# Altium integrated library c1-12.IntLib: 57 symbols
Pins are listed as number, name and electrical type; pins without a type are passive.

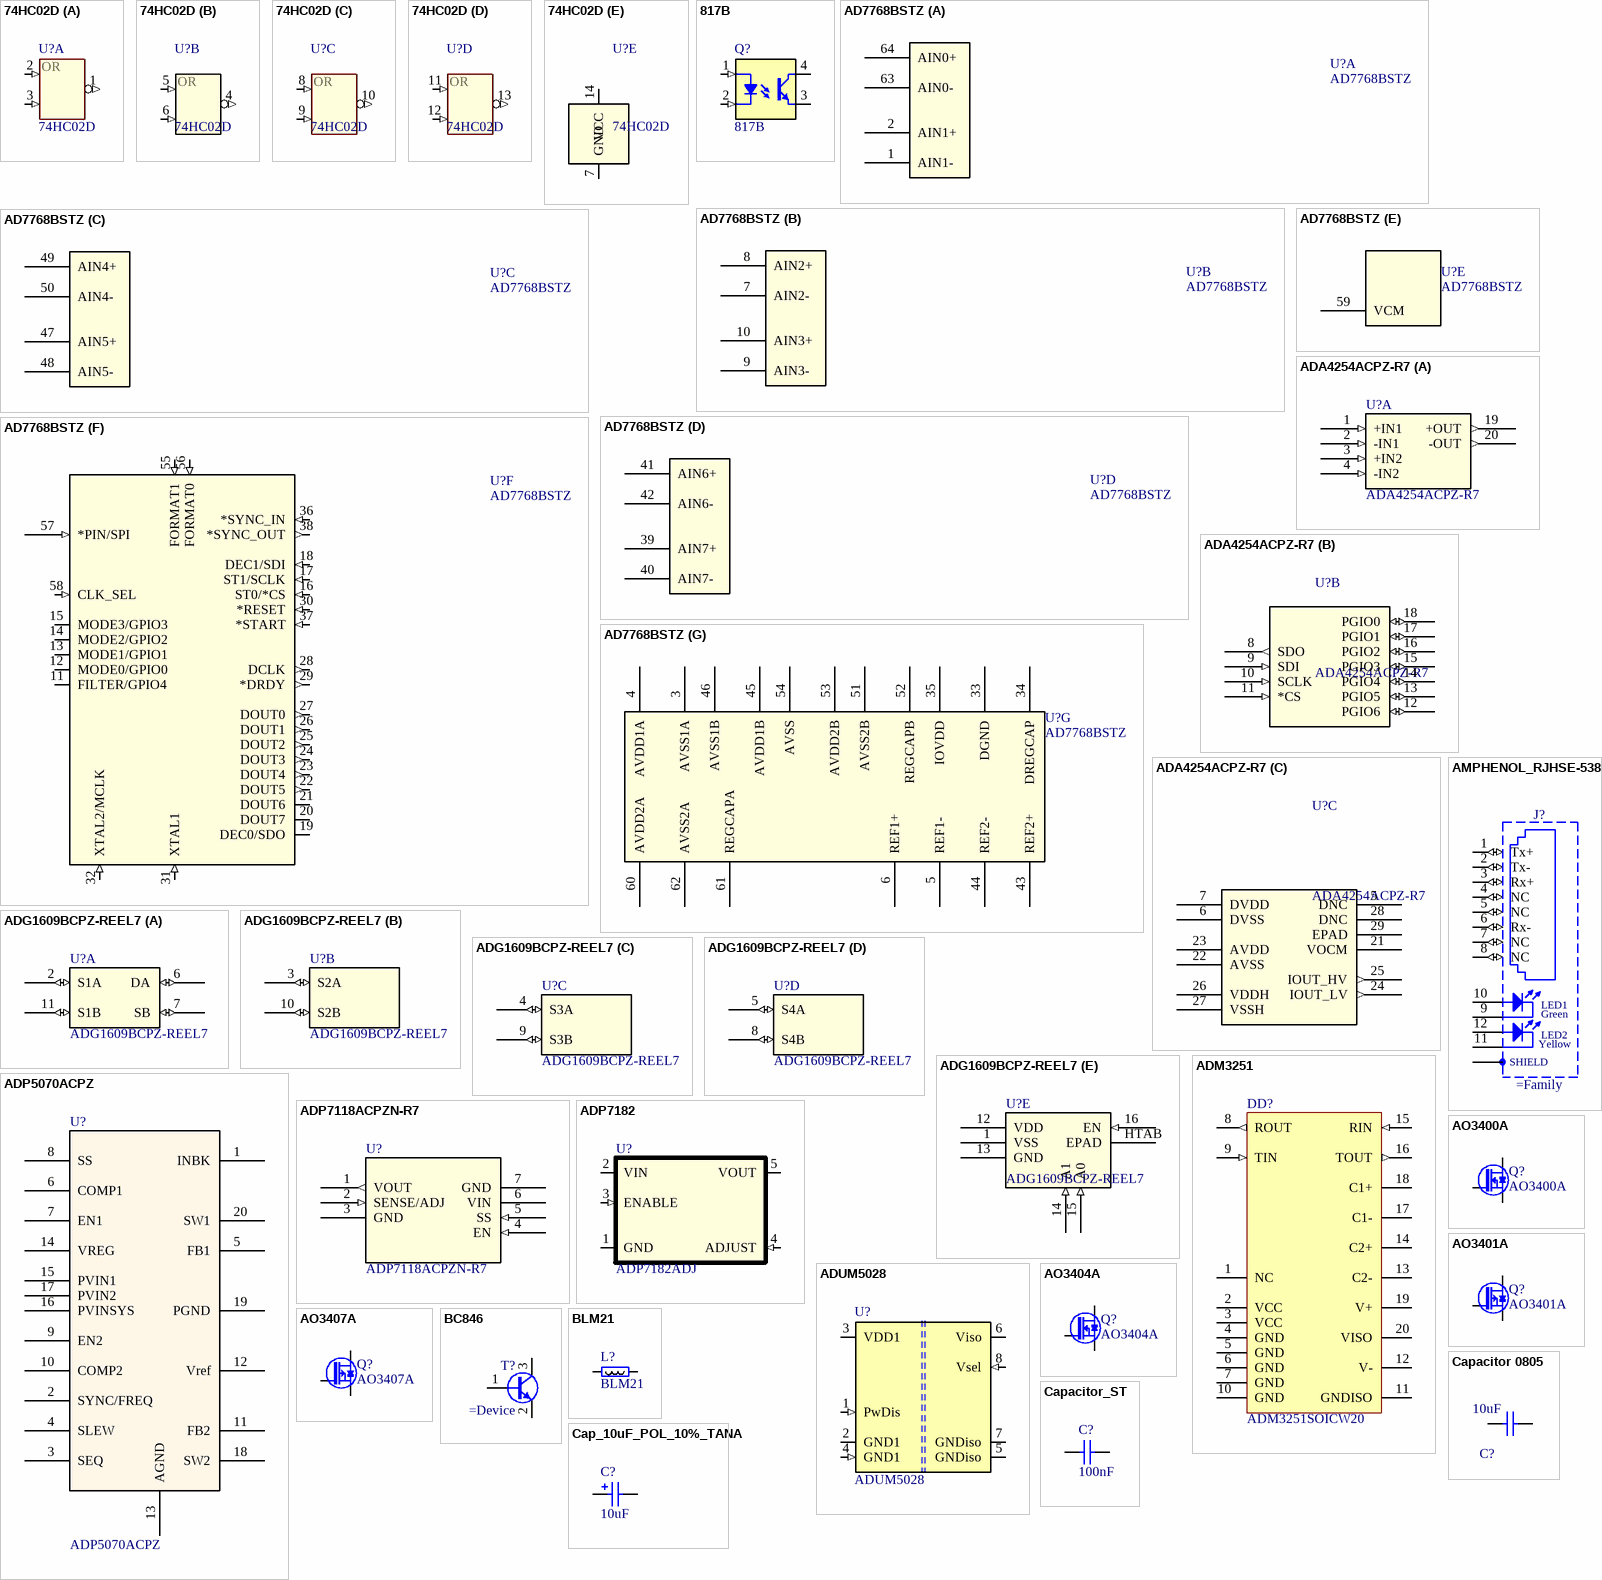
[diagram p0: symbols 74HC02D to Capacitor_ST]

## 74HC02D
designator U?
4 лог. элемента 2ИЛИ-НЕ; Vendor: NXP; Pkg: SOIC14; SMD Solders: 14; Solder Option: RM; Voltage: 2.. 6V; Price: 50; Device: 74HC02D; Name to order: 74HC02D
footprint SOIC127P600X175-14N (SOIC 14, Pitch 1.27mm - Body 4x8.75mm, IPC Medium Density)
part A pins: 1 OUT (out), 2 IN (in), 3 IN (in)
part B pins: 4 OUT (out), 5 IN (in), 6 IN (in)
part C pins: 8 IN (in), 9 IN (in), 10 OUT (out)
part D pins: 11 IN (in), 12 IN (in), 13 OUT (out)
part E pins: 7 GND (power) "Ground", 14 VCC (power) "Data"
part A text: OR
part B text: OR
part C text: OR
part D text: OR

## 817B
designator Q?
Optotransistor; Pkg: DIP4; SMD Solders: 0; Solder Option: RM; THD Solders: 4; Vendor: UMW; Voltage: 35V; Device: 817B; Price: 10; Name to order: 817B; Current: 0
footprint DIP4-300 (DIP 4 Leads, Row Spacing 7.62 mm; Pitch 2.54 mm)
pins: 1 A (in), 2 C (in), 3 E (oe), 4 C (oc)

## AD7768BSTZ
designator U?
Analog to Digital Converters; Mfr_Name: Analog Devices Inc; Type: Data Acquisition; RefDes: RefDes
footprint ST-64-2_ADI-M
part A pins: 1 AIN1-, 2 AIN1+, 63 AIN0-, 64 AIN0+
part B pins: 7 AIN2-, 8 AIN2+, 9 AIN3-, 10 AIN3+
part C pins: 47 AIN5+, 48 AIN5-, 49 AIN4+, 50 AIN4-
part D pins: 39 AIN7+, 40 AIN7-, 41 AIN6+, 42 AIN6-
part E pins: 59 VCM
part F pins: 11 FILTER/GPIO4 (io), 12 MODE0/GPIO0 (io), 13 MODE1/GPIO1 (io), 14 MODE2/GPIO2 (io), 15 MODE3/GPIO3 (io), 16 ST0/*CS (in), 17 ST1/SCLK (in), 18 DEC1/SDI (in), 19 DEC0/SDO (io), 20 DOUT7 (io), 21 DOUT6 (io), 22 DOUT5 (out), 23 DOUT4 (out), 24 DOUT3 (out), 25 DOUT2 (out), 26 DOUT1 (out), 27 DOUT0 (out), 28 DCLK (out), 29 *DRDY (out), 30 *RESET (in), 31 XTAL1 (in), 32 XTAL2/MCLK (in), 36 *SYNC_IN (in), 37 *START (in), 38 *SYNC_OUT (out), 55 FORMAT1 (in), 56 FORMAT0 (in), 57 *PIN/SPI (in), 58 CLK_SEL (in)
part G pins: 3 AVSS1A (power), 4 AVDD1A (power), 5 REF1-, 6 REF1+, 33 DGND (power), 34 DREGCAP (power), 35 IOVDD (power), 43 REF2+, 44 REF2-, 45 AVDD1B (power), 46 AVSS1B (power), 51 AVSS2B (power), 52 REGCAPB (power), 53 AVDD2B (power), 54 AVSS (power), 60 AVDD2A (power), 61 REGCAPA (power), 62 AVSS2A (power)

## ADA4254ACPZ-R7
designator U?
No Description Available; Mfr_Name: Analog Devices Inc; Digi-Key_Part_Number_1: 505-ADA4254ACPZ-R7TR-ND; RefDes: RefDes; Type: Type
footprint CP-28-10_ADI-M
part A pins: 1 +IN1 (in), 2 -IN1 (in), 3 +IN2 (in), 4 -IN2 (in), 19 +OUT (out), 20 -OUT (out)
part B pins: 8 SDO (out), 9 SDI (in), 10 SCLK (in), 11 *CS (in), 12 PGIO6 (io), 13 PGIO5 (io), 14 PGIO4 (io), 15 PGIO3 (io), 16 PGIO2 (io), 17 PGIO1 (io), 18 PGIO0 (io)
part C pins: 5 DNC, 6 DVSS (power), 7 DVDD (power), 21 VOCM (power), 22 AVSS (power), 23 AVDD (power), 24 IOUT_LV (out), 25 IOUT_HV (out), 26 VDDH (power), 27 VSSH (power), 28 DNC, 29 EPAD (power)

## ADG1609BCPZ-REEL7
designator U?
No Description Available; Mfr_Name: Analog Devices Inc; RefDes: RefDes; Type: Type
footprint CP_16_22_ADI-M
part A pins: 2 S1A (io), 6 DA (io), 7 SB (io), 11 S1B (io)
part B pins: 3 S2A (io), 10 S2B (io)
part C pins: 4 S3A (io), 9 S3B (io)
part D pins: 5 S4A (io), 8 S4B (io)
part E pins: 1 VSS (power), 12 VDD (power), 13 GND (power), 14 A1 (in), 15 A0 (in), 16 EN (in), HTAB EPAD

## ADM3251
designator DD?, comment ADM3251SOICW20
Driver UART-RS232; Vendor: Analog Devices; SMD Solder: 20; THD Solder: 0; Unit_Price: 1200; Device: ADM3251; Unit Price: 6; Package: SOICW20; SolderOption: 0
footprint SOIC127P1032X265-20N (SOIC, 1.27mm pitch; 20 pin, 7.50mm W X 12.80mm L X 2.65mm H body, IPC Medium Density)
footprint SOIC127P1032X265-20N (SOIC, 1.27mm pitch; 20 pin, 7.50mm W X 12.80mm L X 2.65mm H body, IPC Medium Density)
pins: 1 NC, 2 VCC (power), 3 VCC (power), 4 GND (power), 5 GND (power), 6 GND (power), 7 GND (power), 8 ROUT (out), 9 TIN (in), 10 GND (power), 11 GNDISO (power), 12 V- (power), 13 C2-, 14 C2+, 15 RIN (in), 16 TOUT (out), 17 C1-, 18 C1+, 19 V+ (power), 20 VISO (power)

## ADP5070ACPZ
designator U?
1 A/0.6 A, DC-to-DC Switching Regulator with / Independent Positive and Negative Outputs
footprint QFN50P400X400X100-21N-S265 (QFN, 0.50mm Pitch, Square; 20 pin, 4.00mm L X 4.00mm W X 1.00mm H body (w/thermal tab 2.65 X 2.65mm),  IPC Medium Density)
footprint QFN50P400X400X100-21N-S265 (QFN, 0.50mm Pitch, Square; 20 pin, 4.00mm L X 4.00mm W X 1.00mm H body (w/thermal tab 2.65 X 2.65mm),  IPC Medium Density)
pins: 1 INBK, 2 SYNC/FREQ, 3 SEQ, 4 SLEW, 5 FB1, 6 COMP1, 7 EN1, 8 SS, 9 EN2, 10 COMP2, 11 FB2, 12 Vref, 13 AGND, 14 VREG, 15 PVIN1, 16 PVINSYS, 17 PVIN2, 18 SW2, 19 PGND, 20 SW1

## ADP7118ACPZN-R7
designator U?
No Description Available; Mfr_Name: Analog Devices Inc; Type: Power Management; RefDes: RefDes
footprint CP-6-3_ADI-M
pins: 1 VOUT (out), 2 SENSE/ADJ (in), 3 GND (power), 4 EN (in), 5 SS (in), 6 VIN (power), 7 GND (power)

## ADP7182
designator U?, comment ADP7182ADJ
Negative LDO Linear stabilizer; Vendor: Analog Devoces; Value: ADJ; Pkg: SOT23-5; SMD Solders: 5; Solder Option: RM; Name to order: ADP7182AUJZ-R7; Vref: 1V22; Price: 100; Device: ADP7182
footprint SOT23-5 (SOT, 0.95mm Pitch; 5 Pin,1.55mm W X 2.90mm L X 1.45mm H body, IPC Medium Density)
pins: 1 GND (power) "Groung", 2 VIN (power) "Vin 2.1,,16V", 3 ENABLE (in) "Enable  activ H", 4 ADJUST (in), 5 VOUT (power) "Vout"

## ADUM5028
designator U?
Isolateted DC DC 5V->5V or 3V3 60mA; Vendor: Analog Devoces; Pkg: SOIC8; SMD Solders: 8; Solder Option: RM; Name to order: ADuM5028-5BRIZ; Current: 200; Price: 2500; Device: ADUM5028
footprint SOIC127P600X175-8N (SOIC 8, Pitch 1.27mm - Body 4x5mm, IPC Medium Density)
pins: 1 PwDis (in), 2 GND1 (power), 3 VDD1 (power), 4 GND1 (in), 5 GNDiso (power), 6 Viso (power), 7 GNDiso (power), 8 Vsel (in)

## AMPHENOL_RJHSE-5381
designator J?
1 Port, 8 Positions, CAT5 RJ45 Modular Connector With Yellow And Green LEDs
footprint AMPHENOL_RJHSE-5381 (1 Port, 8 Positions, CAT5 RJ45 Modular Connector With Yellow And Green LEDs)
footprint AMPHENOL_RJHSE-5381 (1 Port, 8 Positions, CAT5 RJ45 Modular Connector With Yellow And Green LEDs)
pins: 1 Tx+ (io), 2 Tx- (io), 3 Rx+ (io), 4 NC (io), 5 NC (io), 6 Rx- (io), 7 NC (io), 8 NC (io), 9 CLED1, 10 ALED1, 11 ALED2, 12 CLED2, SHIELD
text: LED1; Green; LED2; Yellow

## AO3400A
designator Q?
NMOS; Vendor: UMW; Pkg: SOT23; SMD Solders: 3; Solder Option: RM; Voltage: 30V; Price: 10; Device: AO3400A; Name to order: AO3400A
footprint SOT95P229X119-3N (SOT23 3-Leads, 0.95mm pitch; 3 pin, 1.296mm W X 2.858mm L X 1.194mm H body, IPC Medium Density)
pins: 1 G, 2 S, 3 D

## AO3401A
designator Q?
PMOS; Vendor: UMW; Pkg: SOT23; SMD Solders: 3; Solder Option: RM; THD Solders: 0; Voltage: -30V; Price: 10; Device: AO3401A; Name to order: AO3401A
footprint SOT95P229X119-3N (SOT23 3-Leads, 0.95mm pitch; 3 pin, 1.296mm W X 2.858mm L X 1.194mm H body, IPC Medium Density)
pins: 1 G, 2 S, 3 D

## AO3404A
designator Q?
NMOS; Vendor: UMW; Pkg: SOT23; SMD Solders: 3; Solder Option: RM; Voltage: 30V; Price: 10; Device: AO3404A; Name to order: AO3404A
footprint SOT95P229X119-3N (SOT23 3-Leads, 0.95mm pitch; 3 pin, 1.296mm W X 2.858mm L X 1.194mm H body, IPC Medium Density)
pins: 1 G, 2 S, 3 D

## AO3407A
designator Q?
PMOS; Vendor: UMW; Pkg: SOT23; SMD Solders: 3; Solder Option: RM; THD Solders: 0; Voltage: -30V; Price: 10; Device: AO3407A; Name to order: AO3407A
footprint SOT95P229X119-3N (SOT23 3-Leads, 0.95mm pitch; 3 pin, 1.296mm W X 2.858mm L X 1.194mm H body, IPC Medium Density)
pins: 1 G, 2 S, 3 D

## BC846
designator T?
Bipolar transistor
footprint SOT-23
pins: 1 B, 2 E, 3 C

## BLM21
designator L?
SMD Ferrite bead 0805; Vendor: Vishay; Value: 1k; Pkg: SMD0805; SMD Solders: 2; Solder Option: RM; Device: BLM21; Price: 10
footprint RESC2012X50N (Chip Resistor, EIA 0805, Metric 2012, Body 2.0x1.25mm, IPC Medium Density)
pins: 1, 2

## Cap_10uF_POL_10%_TANA
designator C?, comment 10uF
Polarized Capacitor,10uF,10V,10%,typeA,VISHAY; Manuf_Part_1: 293D106X9010A2TE3; Revision: July-2002: Re-released for DXP Platform.; Value: 10uF; Manuf_1: VISHAY; Order: *; ECCN_US/EU: n/a
simulation model CAP (Capacitor)
signal-integrity model C200M
footprint TAN-A
footprint TAN-A (TAN Capacitor)
footprint TAN-A (TAN Capacitor)
pins: 1, 2

## Capacitor 0805
designator C?, comment 10uF
footprint RESC2012X50N (Chip Resistor, EIA 0805, Metric 2012, Body 2.0x1.25mm, IPC Medium Density)
pins: 1, 2

## Capacitor_ST
designator C?, comment 100nF
Capacitor 0402 / 0603 / 0805; Revision: July-2002: Re-released for DXP Platform.; Value: 100nF
simulation model CAP (Capacitor)
signal-integrity model Cap
footprint 0603C (Chip Capacitor, Body 1.6x0.8mm, Height 1.0mm, IPC Medium Density)
footprint 0402C
footprint 0805C (Footprint not found)
footprint 0603C (Chip Capacitor, Body 1.6x0.8mm, Height 1.0mm, IPC Medium Density)
footprint 0603C (Chip Capacitor, Body 1.6x0.8mm, Height 1.0mm, IPC Medium Density)
footprint 0805С (Chip Capacitor, Body 2.0x1.25mm, IPC Medium Density)
pins: 1, 2

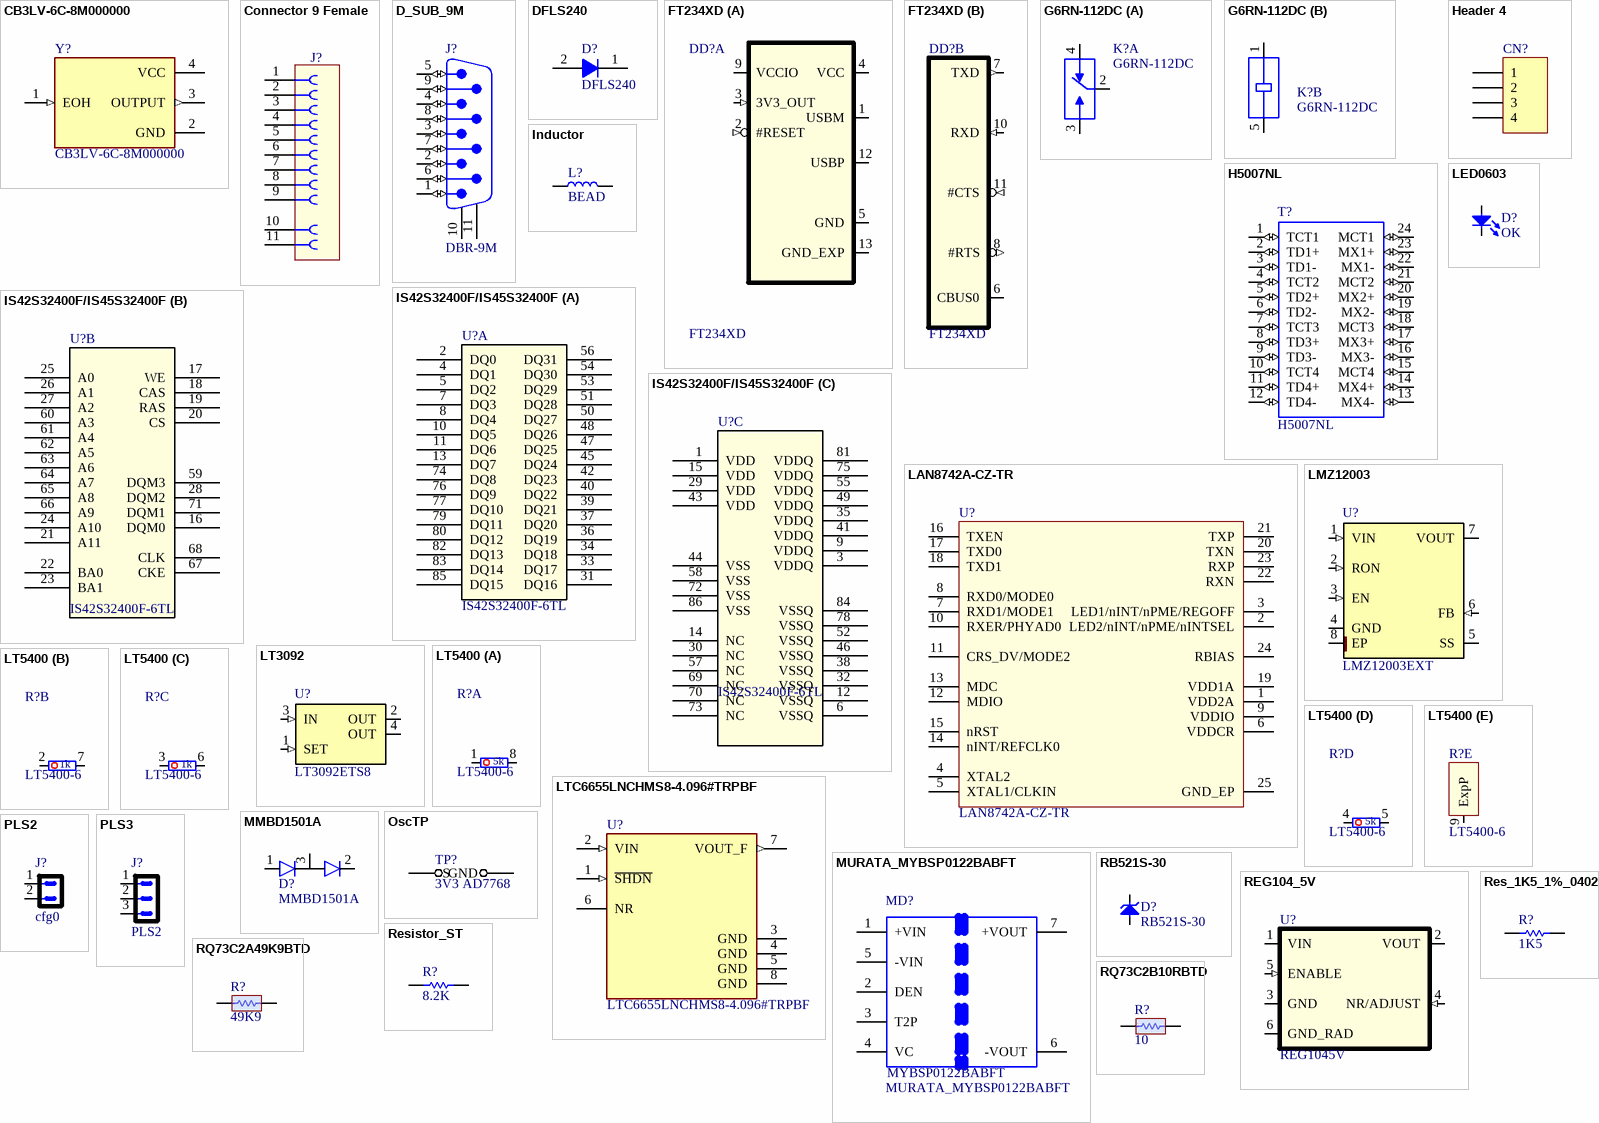
[diagram p1: symbols CB3LV-6C-8M000000 to RQ73C2B10RBTD]

## CB3LV-6C-8M000000
designator Y?
8 MHz XO (Standard) HCMOS, TTL Oscillator 3.3V Enable/Disable 4-SMD, No Lead; MF: CTS-Frequency Controls; SnapEDA_Link: https://www.snapeda.com/parts/CB3LV-6C-8M000000/CTS-Frequency+Controls/view-part/?ref=snap; Package: NON STANDARD-4 CTS; Value: *; MP: CB3LV-6C-8M000000; Check_prices: https://www.snapeda.com/parts/CB3LV-6C-8M000000/CTS-Frequency+Controls/view-part/?ref=eda
footprint OSC_CB3LV-6C-8M000000
pins: 1 EOH (in), 2 GND (power), 3 OUTPUT (out), 4 VCC (power)

## Connector 9 Female
designator J?
Connector 9 Female; Solder Option: 0; THD Solders: 11; SMD Solders: 0; Vendor: *; Value: *
footprint TYCO_5747844-5 (Right Angle 9 Female Contacts D-SUB Connector With PCB Mount Retention , Grounding Straps, and Fixed UNC 4-40 Female Screwlocks)
footprint TYCO_5747844-5 (Right Angle 9 Female Contacts D-SUB Connector With PCB Mount Retention , Grounding Straps, and Fixed UNC 4-40 Female Screwlocks)
pins: 1, 2, 3, 4, 5, 6, 7, 8, 9, 10, 11
1 alternate drawing of the same symbol

## D_SUB_9M
designator J?, comment DBR-9M
Вилка  DSUB 9 угловая; Vendor: Connfly; SMD Solders: 0; Solder Option: RM; THD Solders: 11; Name to order: DRB- 9MA (DBR-9M) (DS1037-9M); Price: 50; Device: DBR-9M
footprint AMPHENOL_L717DFE09P1ATN (Right Angled D-Sub 9 Male Contacts with Metal Bracket and Front Female Screwlock (UNC4-40))
pins: 1 (io), 2 (io), 3 (io), 4 (io), 5 (io), 6 (io), 7 (io), 8 (io), 9 (io), 10, 11

## DFLS240
designator D?
2.0A SURFACE MOUNT SCHOTTKY BARRIER RECTIFIER
footprint DFLS240
pins: 1 K, 2 A

## FT234XD
designator DD?
USB-UART driver; Vendor: FTDI; SMD Solders: 7; THD Solders: 0; Device: FT234XD; Package: DFN_12-0.45; Unit Price: 2
footprint DFN_12-045 (0.45mm pitch 12pin)
part A pins: 1 USBM (io) "USB diff IO negativ", 2 #RESET (in) "RESET", 3 3V3_OUT (in) "Power out to Peripheria", 4 VCC (power) "FT234 Power", 5 GND (power) "FT234 GND", 9 VCCIO (power) "UART ifc Power", 12 USBP (io) "USB diff IO positiv", 13 GND_EXP (power) "Chip GND exp pad"
part B pins: 6 CBUS0 (io) "Multifunc pin", 7 TXD (out) "UART TX", 8 #RTS (out) "UART #RTS", 10 RXD (in) "UART RX", 11 #CTS (in) "UART #CTS"

## G6RN-112DC
designator K?
General Purpose Relay SPST-NO _1 Form A_ 12VDC Coil Through Hole; MF: Omron Electronics; Value: *; Availability: Unavailable; Package: Custom Package Omron Electronics Inc.; Price: None; SnapEDA_Link: https://www.snapeda.com/parts/G6RN-1%2012DC/Omron%20Electronics%20Inc-EMC%20Div/view-part/490385/?ref=snap; MP: G6RN-1 12DC
footprint RELAY_G6RN-1_12DC
part A pins: 2 COM, 3 NO, 4 NC
part B pins: 1 COIL1, 5 COIL2

## H5007NL
designator T?
Isolation and Data Interface _Encapsulated_ Pulse Transformer 1CT:1CT Surface Mount; MP: H5007NL-T; MF: Pulse Electronics; Package: Pulse Electronics; SnapEDA_Link: https://www.snapeda.com/parts/H5007NL-T/Pulse%20Electronics%20Network/view-part/2770413/?ref=snap; Value: *; Availability: Unavailable; Price: None
footprint SOIC127P1600X551-24N
footprint SOIC127P1600X551-24N
pins: 1 TCT1 (io), 2 TD1+ (io), 3 TD1- (io), 4 TCT2 (io), 5 TD2+ (io), 6 TD2- (io), 7 TCT3 (io), 8 TD3+ (io), 9 TD3- (io), 10 TCT4 (io), 11 TD4+ (io), 12 TD4- (io), 13 MX4- (io), 14 MX4+ (io), 15 MCT4 (io), 16 MX3- (io), 17 MX3+ (io), 18 MCT3 (io), 19 MX2- (io), 20 MX2+ (io), 21 MCT2 (io), 22 MX1- (io), 23 MX1+ (io), 24 MCT1 (io)

## Header 4
designator CN?  (value not drawn)
Header, 4-Pin, Single row; Revision: 17-Jul-2002: Re-released for DXP Platform.; Publisher: Altium Limited
signal-integrity model Connector
footprint 1*4 (Footprint not found)
footprint HDR_1x4_2R54_V_M (Footprint not found)
footprint HDR_1x4_2R54_V_M (Male Header, Pitch 2.54mm, 4x1 Position, Mated Height 6mm, Tail Length 3mm)
pins: 1, 2, 3, 4

## Inductor
designator L?, comment BEAD
Inductor; Value: 100uH; Published: 8-Jun-2000; Revision: July-2002: Re-released for DXP Platform.; Publisher: Altium Limited
footprint 0603 (Footprint not found)
footprint 0603L (Bead 0603L)
footprint 0603L (Bead 0603L)
pins: 1, 2

## IS42S32400F/IS45S32400F
designator U?, comment IS42S32400F-6TL
4M x 32 / 128Mb SYNCHRONOUS DRAM
footprint SOP50P1176X120-86N (SOP, 0.50mm, pitch; 86 pin, 10.16mm W X 22.22mm L X 1.20mm H body, IPC Medium Density)
footprint SOP50P1176X120-86N (SOP, 0.50mm, pitch; 86 pin, 10.16mm W X 22.22mm L X 1.20mm H body, IPC Medium Density)
part A pins: 2 DQ0, 4 DQ1, 5 DQ2, 7 DQ3, 8 DQ4, 10 DQ5, 11 DQ6, 13 DQ7, 31 DQ16, 33 DQ17, 34 DQ18, 36 DQ19, 37 DQ20, 39 DQ21, 40 DQ22, 42 DQ23, 45 DQ24, 47 DQ25, 48 DQ26, 50 DQ27, 51 DQ28, 53 DQ29, 54 DQ30, 56 DQ31, 74 DQ8, 76 DQ9, 77 DQ10, 79 DQ11, 80 DQ12, 82 DQ13, 83 DQ14, 85 DQ15
part B pins: 16 DQM0, 17 WE, 18 CAS, 19 RAS, 20 CS, 21 A11, 22 BA0, 23 BA1, 24 A10, 25 A0, 26 A1, 27 A2, 28 DQM2, 59 DQM3, 60 A3, 61 A4, 62 A5, 63 A6, 64 A7, 65 A8, 66 A9, 67 CKE, 68 CLK, 71 DQM1
part C pins: 1 VDD (power), 3 VDDQ (power), 6 VSSQ (power), 9 VDDQ (power), 12 VSSQ (power), 14 NC (power), 15 VDD (power), 29 VDD (power), 30 NC (power), 32 VSSQ (power), 35 VDDQ (power), 38 VSSQ (power), 41 VDDQ (power), 43 VDD (power), 44 VSS (power), 46 VSSQ (power), 49 VDDQ (power), 52 VSSQ (power), 55 VDDQ (power), 57 NC (power), 58 VSS (power), 69 NC (power), 70 NC (power), 72 VSS (power), 73 NC (power), 75 VDDQ (power), 78 VSSQ (power), 81 VDDQ (power), 84 VSSQ (power), 86 VSS (power)

## LAN8742A-CZ-TR
designator U?
LAN8742A-CZ-TR - Small Footprint RMII 10/100 Ethernet, Transceiver with HP Auto-MDIX and flexPWR Technology SQFN-24; Manuf_1: MICROCHIP; Order: LAN8742A-CZ-TR; Manuf_Part_1: LAN8742A-CZ-TR; Distrib: MICROCHIP
footprint QFN24_0R5_4X4 (SQFN 24 Pins, Pitch 0.5mm, 4mmx4mm)
footprint QFN24_0R5_4X4 (SQFN 24 Pins, Pitch 0.5mm, 4mmx4mm)
pins: 1 VDD2A, 2 LED2/nINT/nPME/nINTSEL, 3 LED1/nINT/nPME/REGOFF, 4 XTAL2, 5 XTAL1/CLKIN, 6 VDDCR, 7 RXD1/MODE1, 8 RXD0/MODE0, 9 VDDIO, 10 RXER/PHYAD0, 11 CRS_DV/MODE2, 12 MDIO, 13 MDC, 14 nINT/REFCLK0, 15 nRST, 16 TXEN, 17 TXD0, 18 TXD1, 19 VDD1A, 20 TXN, 21 TXP, 22 RXN, 23 RXP, 24 RBIAS, 25 GND_EP

## LED0603
designator D?, comment OK
Чип светодиод 0603; Vendor: KB; SMD Solders: 2; Solder Option: RM; Pkg: SMD0603; Device: LED0603; Price: 10; Value: OK
footprint LED0603 (Chip LED 0603, Body 2.25x1mm)
pins: 1 C, 2 A

## LMZ12003
designator U?, comment LMZ12003EXT
DC-DC Power Module; Vendor: Texas Instruments; Pkg: NDW 7; SMD Solders: 8; Solder Option: EXT; THD Solders: 0; Price: 11000; Device: LMZ12003; Name to order: LMZ12003EXT; thVoltage: -; PkgCode: EXT
footprint NATIONAL_TO-PMOD-7 (TZA07A) (TO-PMOD 7 Pin Package, NATIONAL Package TZA07A, 1.70mm pitch; 9.85mm L X 10.16mm W X 4.67mm H body)
pins: 1 VIN (in), 2 RON (in), 3 EN (in), 4 GND (power), 5 SS, 6 FB (in), 7 VOUT (power), 8 EP (power)

## LT3092
designator U?, comment LT3092ETS8
Reference, 5 V; Name to order: LT3092ETS8, LT3092ITS8; Pkg: SOT223; SMD Solders: 4; Solder Option: RM; TC: 10ppm/C; Tolerance: 1%; Vendor: Analog Devices Inc; Voltage: max 40V; Current: 10uA; Price: 1700; Device: LT3092ETS8
footprint SOT223 (SOT223, 2.30mm pitch; 3 pin, 3.70mm W X 6.70mm L, IPC Medium Density)
pins: 1 SET (in), 2 OUT (power), 3 IN (in), 4 OUT (power)

## LT5400
designator R?, comment LT5400-6
4 прецизионных резистора; Vendor: Analog Devices; SMD Solders: 0; Solder Option: i; TC: 200ppb/C; Tolerance: 0..025%; Pkg: MSOP 9-0.65; Pwr: 40C/W; Device: LT5400; Name to order: LT5400BMPMS8E-6#PBF; Value: -6; Price: 2; THD Solders: 0
footprint SOP65P488X110-9N-R178X241 (SOP, 8-Leads, Body 3x3mm (max), Pitch 0.65mm, (w/thermal tab 2 .41 X 1.78 mm), IPC Medium Density)
part A pins: 1, 8
part B pins: 2, 7
part C pins: 3, 6
part D pins: 4, 5
part E pins: 9 ExpP
part A text: 5k
part B text: 1k
part C text: 1k
part D text: 5k

## LTC6655LNCHMS8-4.096#TRPBF
designator U?
0.25ppm Noise, Low Drift Precision References; MF: Analog Devices; SnapEDA_Link: https://www.snapeda.com/parts/LTC6655LNCHMS8-4.096%23TRPBF/Analog+Devices/view-part/?ref=snap; Package: MSOP-8 Analog Devices; Value: *; MP: LTC6655LNCHMS8-4.096#TRPBF; Check_prices: https://www.snapeda.com/parts/LTC6655LNCHMS8-4.096%23TRPBF/Analog+Devices/view-part/?ref=eda
footprint SOP65P490X110-8N (SOP, 0.65mm pitch; 8 pin, 3.00mm W X 3.00mm L X 1.10mm H body, IPC Medium Density)
pins: 1 ~{SHDN} (in), 2 VIN (in), 3 GND (power), 4 GND (power), 5 GND (power), 6 NR, 7 VOUT_F (out), 8 GND (power)

## MMBD1501A
designator D?
Diode Standard 200V 200mA Surface Mount SOT-23-3; MF: ON Semiconductor; MP: MMBD1501A; Arrow_Europe-Purchase-URL: https://snapeda.com/shop?store=Arrow+Europe&id=2293125; Price: None; SnapEDA_Link: https://www.snapeda.com/parts/MMBD1501A/ON%20Semiconductor/view-part/2293125/?ref=snap; Arrow_Electronics-Purchase-URL: https://snapeda.com/shop?store=Arrow+Electronics&id=2293125; Package: SOT-23-3 ON Semiconductor; DigiKey-Purchase-URL: https://snapeda.com/shop?store=DigiKey&id=2293125; Availability: Good; Value: *; Mouser-Purchase-URL: https://snapeda.com/shop?store=Mouser&id=2293125
footprint SOT-23
pins: 1 A, 2 C, 3 CA

## MURATA_MYBSP0122BABFT
designator MD?
Isolated PoE Module DC DC Converter 1 Output 12V - - - 2.125A 37V - 57V Input; MF: Murata Power Solutions; Availability: In Stock; Check_prices: https://www.snapeda.com/parts/MYBSP0122BABFT/Murata/view-part/?ref=eda; SnapEDA_Link: https://www.snapeda.com/parts/MYBSP0122BABFT/Murata/view-part/?ref=snap; Value: *; Price: None; Purchase-URL: https://pricing.snapeda.com/search/part/MYBSP0122BABFT/?ref=eda; Package: SMD-7 Murata Power Solutions Inc.; MP: MYBSP0122BABFT
footprint MURATA_MYBSP0122BABFT_0
footprint MURATA_MYBSP0122BABFT_0
footprint MURATA_MYBSP0122BABFT_0 - duplicate
pins: 1 +VIN (power), 2 DEN, 3 T2P, 4 VC (power), 5 -VIN (power), 6 -VOUT (power), 7 +VOUT (power)

## OscTP
designator TP?, comment 3V3 AD7768
Контрольная точка для подключения осциллографа короткой землёй; Vendor: PCB; Value: OSC_TP; Price: 0; SolderOption: PCB
footprint TP2
pins: 1 S, 2 GND

## PLS2
designator J?, comment cfg0
PLS2; Vendor: Confly; SMD Solders: 0; Solder Option: RM; THD Solders: 2; Price: 1; Device: cfg0
footprint PLS2 (2 Contacts Straight Strip Header Pitch 2.54mm L=6.7mm ''Mini-Wire-Wrap'')
footprint SAMTEC_TSW-102-23-L-S (2 Contacts - Pitch 2.54mm - Single Row  Through Mount Straigh Header (Post Lead 5.84mm, Tail Lead 2.92mm, Insulator 2.54mm))
pins: 1 (io), 2 (io)

## PLS3
designator J?, comment PLS2
PLS3; Vendor: Confly; SMD Solders: 0; Solder Option: RM; THD Solders: 2; Price: 1; Device: PLS2
footprint COMATEL_385.0358.1.03.400 (3 Contacts Straight Strip Header Pitch 2.54mm L=6.3mm ''Mini-Wire-Wrap'')
pins: 1 (io), 2 (io), 3 (io)

## RB521S-30
designator D?
Чип Шоттки диод; Vendor: CTK; Voltage: 30V; SMD Solders: 2; Solder Option: RM; Pkg: SOD523; Price: 5; Device: RB521S-30; Name to order: RB521S-30
footprint SODFL1608X65N (Ultra Small Outline Diode Flat Lead (SOD-523), Body; 1.2mm L X 0.8mm W X 0.65mm H, IPC Medium Density)
pins: 1 C, 2 A

## REG104_5V
designator U?, comment REG1045V
Positive LDO Linear stabilizer 5Vin to 3V3Digital; Vendor: Texas Instruments; Device: REG104; Value: 5V; SMD Solder: 6; THD Solder: 0; Step: 2; Unit Price: 6; Package: SOT223-6; SolderOption: 0
footprint SOT223_6-127 (1.27mm pitch 20pin = DCQ6-M(ti))
pins: 1 VIN (power) "Vin 2.1,,16V", 2 VOUT (power) "Vout", 3 GND (power) "Groung", 4 NR/ADJUST (in), 5 ENABLE (in) "Enable  activ H", 6 GND_RAD (power) "Radiator"

## Res_1K5_1%_0402
designator R?, comment 1K5
Resistor,1K5,0402,1%,YAGEO; Manuf_Part_1: RC0402FR-071K5L; Value: 1K5; Manuf_1: YAGEO; Order: RC0402FR-071K5L; ECCN_US/EU: n/a; Distrib: FARNELL
footprint 0402R
footprint 0603R
footprint 0805R (Footprint not found)
footprint 0603R-GS
footprint 1206R (Footprint not found)
pins: 1, 2

## Resistor_ST
designator R?, comment 8.2K
Resistor 0402 / 0603 / 0805 c2; Value: 10K
footprint 0402R
footprint 0603R
footprint 0805R (Footprint not found)
footprint 0603R-GS
footprint 0603R (Chip Resistor, Body 1.6x0.8mm, IPC Medium Density)
footprint 0603R (Chip Resistor, Body 1.6x0.8mm, IPC Medium Density)
pins: 1, 2

## RQ73C2A49K9BTD
designator R?, comment 49K9
Precision Resistor, Thin Film, 0805, .2 W, 49.9K ohm, .1 %, ±10 ppm/°C; MP: RQ73C2A49K9BTD; Package: None; Price: None; Value: 49K9; Availability: Unavailable
footprint 0805R
footprint RESC2012X50N
pins: 1, 2

## RQ73C2B10RBTD
designator R?, comment 10
Precision Resistor, Thin Film, 1206, .4 W, 10 ohm, .1 %, ±10 ppm/°C; MP: RQ73C2B10RBTD; Package: None; Price: None; Value: 10; Availability: Unavailable
footprint R1206
footprint RC1206
pins: 1, 2

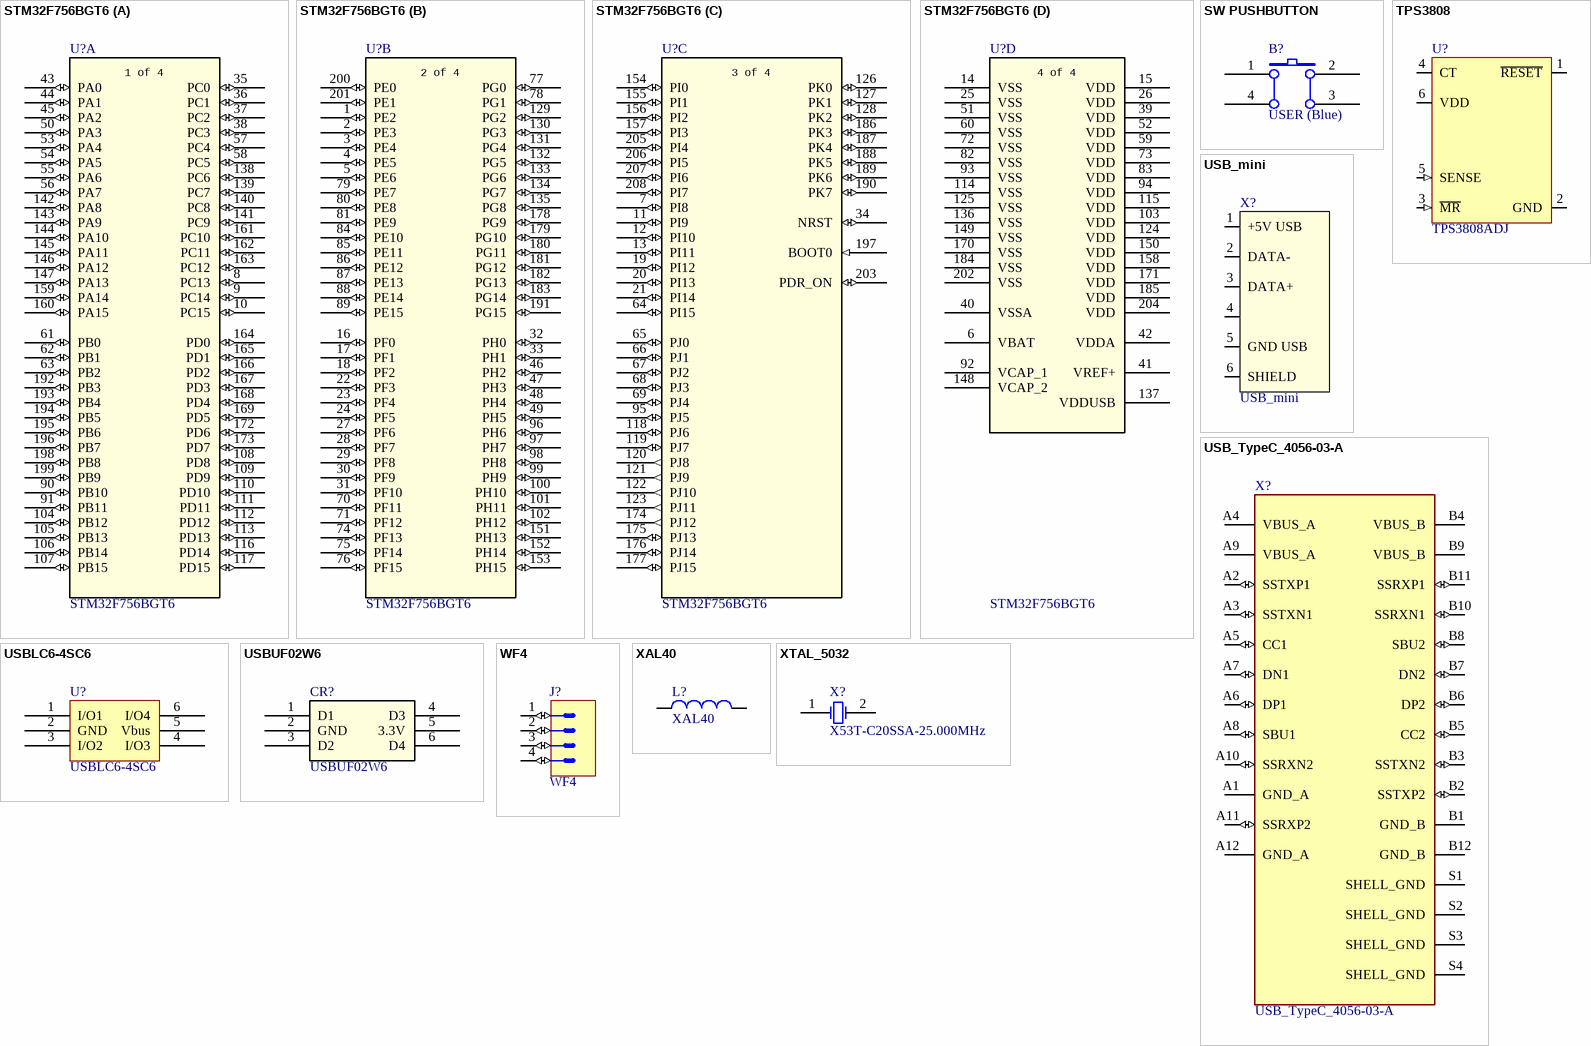
[diagram p2: symbols STM32F756BGT6 to XTAL_5032]

## STM32F756BGT6
designator U?
No Description Available; Mfr_Name: STMicroelectronics; RefDes: RefDes; Type: Type
footprint LQFP-208_STM
footprint QFP50P3000X3000X160-208N
part A pins: 8 PC13 (io), 9 PC14 (io), 10 PC15 (io), 35 PC0 (io), 36 PC1 (io), 37 PC2 (io), 38 PC3 (io), 43 PA0 (io), 44 PA1 (io), 45 PA2 (io), 50 PA3 (io), 53 PA4 (io), 54 PA5 (io), 55 PA6 (io), 56 PA7 (io), 57 PC4 (io), 58 PC5 (io), 61 PB0 (io), 62 PB1 (io), 63 PB2 (io), 90 PB10 (io), 91 PB11 (io), 104 PB12 (io), 105 PB13 (io), 106 PB14 (io), 107 PB15 (io), 108 PD8 (io), 109 PD9 (io), 110 PD10 (io), 111 PD11 (io), 112 PD12 (io), 113 PD13 (io), 116 PD14 (io), 117 PD15 (io), 138 PC6 (io), 139 PC7 (io), 140 PC8 (io), 141 PC9 (io), 142 PA8 (io), 143 PA9 (io), 144 PA10 (io), 145 PA11 (io), 146 PA12 (io), 147 PA13 (io), 159 PA14 (io), 160 PA15 (io), 161 PC10 (io), 162 PC11 (io), 163 PC12 (io), 164 PD0 (io), 165 PD1 (io), 166 PD2 (io), 167 PD3 (io), 168 PD4 (io), 169 PD5 (io), 172 PD6 (io), 173 PD7 (io), 192 PB3 (io), 193 PB4 (io), 194 PB5 (io), 195 PB6 (io), 196 PB7 (io), 198 PB8 (io), 199 PB9 (io)
part B pins: 1 PE2 (io), 2 PE3 (io), 3 PE4 (io), 4 PE5 (io), 5 PE6 (io), 16 PF0 (io), 17 PF1 (io), 18 PF2 (io), 22 PF3 (io), 23 PF4 (io), 24 PF5 (io), 27 PF6 (io), 28 PF7 (io), 29 PF8 (io), 30 PF9 (io), 31 PF10 (io), 32 PH0 (io), 33 PH1 (io), 46 PH2 (io), 47 PH3 (io), 48 PH4 (io), 49 PH5 (io), 70 PF11 (io), 71 PF12 (io), 74 PF13 (io), 75 PF14 (io), 76 PF15 (io), 77 PG0 (io), 78 PG1 (io), 79 PE7 (io), 80 PE8 (io), 81 PE9 (io), 84 PE10 (io), 85 PE11 (io), 86 PE12 (io), 87 PE13 (io), 88 PE14 (io), 89 PE15 (io), 96 PH6 (io), 97 PH7 (io), 98 PH8 (io), 99 PH9 (io), 100 PH10 (io), 101 PH11 (io), 102 PH12 (io), 129 PG2 (io), 130 PG3 (io), 131 PG4 (io), 132 PG5 (io), 133 PG6 (io), 134 PG7 (io), 135 PG8 (io), 151 PH13 (io), 152 PH14 (io), 153 PH15 (io), 178 PG9 (io), 179 PG10 (io), 180 PG11 (io), 181 PG12 (io), 182 PG13 (io), 183 PG14 (io), 191 PG15 (io), 200 PE0 (io), 201 PE1 (io)
part C pins: 7 PI8 (io), 11 PI9 (io), 12 PI10 (io), 13 PI11 (io), 19 PI12 (io), 20 PI13 (io), 21 PI14 (io), 34 NRST (io), 64 PI15 (io), 65 PJ0 (io), 66 PJ1 (io), 67 PJ2 (io), 68 PJ3 (io), 69 PJ4 (io), 95 PJ5 (io), 118 PJ6 (io), 119 PJ7 (io), 120 PJ8 (out), 121 PJ9 (out), 122 PJ10 (out), 123 PJ11 (out), 126 PK0 (io), 127 PK1 (io), 128 PK2 (io), 154 PI0 (io), 155 PI1 (io), 156 PI2 (io), 157 PI3 (io), 174 PJ12 (out), 175 PJ13 (io), 176 PJ14 (io), 177 PJ15 (io), 186 PK3 (io), 187 PK4 (io), 188 PK5 (io), 189 PK6 (io), 190 PK7 (io), 197 BOOT0 (in), 203 PDR_ON (io), 205 PI4 (io), 206 PI5 (io), 207 PI6 (io), 208 PI7 (io)
part D pins: 6 VBAT (power), 14 VSS (power), 15 VDD (power), 25 VSS (power), 26 VDD (power), 39 VDD (power), 40 VSSA (power), 41 VREF+ (power), 42 VDDA (power), 51 VSS (power), 52 VDD (power), 59 VDD (power), 60 VSS (power), 72 VSS (power), 73 VDD (power), 82 VSS (power), 83 VDD (power), 92 VCAP_1 (power), 93 VSS (power), 94 VDD (power), 103 VDD (power), 114 VSS (power), 115 VDD (power), 124 VDD (power), 125 VSS (power), 136 VSS (power), 137 VDDUSB (power), 148 VCAP_2 (power), 149 VSS (power), 150 VDD (power), 158 VDD (power), 170 VSS (power), 171 VDD (power), 184 VSS (power), 185 VDD (power), 202 VSS (power), 204 VDD (power)
part A text: 1 of 4
part B text: 2 of 4
part C text: 3 of 4
part D text: 4 of 4

## SW PUSHBUTTON
designator B?, comment USER (Blue)
SE PUSHBUTTON
footprint PB (Footprint not found)
footprint BP1CMS
footprint PB10 (Footprint not found)
footprint PB-6X6mm-Black (Surface Mounting Type Tact Switch, 4-Leads, Body 6x6mm, Height 4.5mm Black)
pins: 1 A0, 2 B0, 3 B1, 4 A1

## TPS3808
designator U?, comment TPS3808ADJ
Supervisory Circuit. Low-Quiescent-Current, Programmable-Delay; Vendor: Texas Instruments; Value: ADJ; Pkg: SOT23-6; SMD Solders: 6; Solder Option: RM; THD Solders: 0; Name to order: TPS3808G01DBV; Current: 6uA; thVoltage: 400mV; Price: 200; Device: TPS3808
footprint SOT95P270X145-6N (SOT, 0.95mm Pitch; 6 Pin,1.55mm W X 2.90mm L X 1.45mm H body, IPC Medium Density)
pins: 1 ~{RESET} (oc), 2 GND (power), 3 ~{MR} (in), 4 CT, 5 SENSE (in), 6 VDD (power)

## USB_mini
designator X?
Вилка  PLS 6x2.54; Vendor: TE Connectivity; SolderOption: Norm; Price: 50; Value: USB_mini
footprint TYCO_1734035-1 (SMD, Right Angle, 5 Position, Type B, Mini USB Receptacle)
footprint TYCO_1734035-1 (SMD, Right Angle, 5 Position, Type B, Mini USB Receptacle)
pins: 1 +5V USB "Ground", 2 DATA- "Ground", 3 DATA+ "Ground", 4 "Ground", 5 GND USB "Ground", 6 SHIELD "Ground"

## USB_TypeC_4056-03-A
designator X?
USB-C (USB TYPE-C) USB 3.2 Gen 2 (USB 3.1 Gen 2, Superspeed + (USB 3.1)) Receptacle Connector 24 Position Surface Mount, Right Angle; Through Hole; PartN: USB4056-03-A; Vendor: Global Connector Technology; Purchase-URL: https://pricing.snapeda.com/search/part/USB4056-03-A/?ref=eda; Package: None; Availability: In Stock; Value: USB_TypeC; Check_prices: https://www.snapeda.com/parts/USB4056-03-A/Global+Connector+Technology/view-part/?ref=eda; Price: 75; SnapEDA_Link: https://www.snapeda.com/parts/USB4056-03-A/Global+Connector+Technology/view-part/?ref=snap
footprint GCT_USB4056-03-A_REVA
pins: A1 GND_A (power), A2 SSTXP1 (io), A3 SSTXN1 (io), A4 VBUS_A (power), A5 CC1 (io), A6 DP1 (io), A7 DN1 (io), A8 SBU1 (io), A9 VBUS_A (power), A10 SSRXN2 (io), A11 SSRXP2 (io), A12 GND_A (power), B1 GND_B (power), B2 SSTXP2 (io), B3 SSTXN2 (io), B4 VBUS_B (power), B5 CC2 (io), B6 DP2 (io), B7 DN2 (io), B8 SBU2 (io), B9 VBUS_B (power), B10 SSRXN1 (io), B11 SSRXP1 (io), B12 GND_B (power), S1 SHELL_GND (power), S2 SHELL_GND (power), S3 SHELL_GND (power), S4 SHELL_GND (power)

## USBLC6-4SC6
designator U?
footprint SOT23-6L
footprint SOT23-6L
pins: 1 I/O1, 2 GND, 3 I/O2, 4 I/O3, 5 Vbus, 6 I/O4

## USBUF02W6
designator CR?
USB protection; Mfr_Name: STMicroelectronics; RefDes: RefDes; Type: Type
footprint SOTT323-6L_STM-M
pins: 1 D1, 2 GND (power), 3 D2, 4 D3, 5 3.3V, 6 D4

## WF4
designator J?
Вилка  WF4; Vendor: Confly; SMD Solders: 0; Solder Option: RM; THD Solders: 4; Price: 20; Device: WF4
footprint WF4_2_54 (2.54mm (.100") Pitch KK® Header, Single Row, Vertical, 4 Circuits)
pins: 1 (io), 2 (io), 3 (io), 4 (io)

## XAL40
designator L?
Fixed Inductors 10uH Shld 20% 3.1A 92.4mOhms AECQ2; MF: Coilcraft; MP: XAL4040103ME; SnapEDA_Link: https://www.snapeda.com/parts/XAL4040103ME/Coilcraft/view-part/?ref=snap; Package: None; Value: *; Check_prices: https://www.snapeda.com/parts/XAL4040103ME/Coilcraft/view-part/?ref=eda
footprint XAL40
pins: 1, 2

## XTAL_5032
designator X?, comment X53T-C20SSA-25.000MHz
Crystal Oscillator; Published: 8-Jun-2000; LatestRevisionDate: 17-Jul-2002; LatestRevisionNote: Re-released for DXP Platform.; PackageReference: R38; Publisher: Altium Limited
footprint R38
footprint XTAL1
footprint HOSC-L500HW320H105-4_V (Quartz Crystal, Body 5.0 x 3.2 mm, Height 1.05mm)
footprint NDK_NX3225GD (NDK 8M Hz  3.2 x 2.5 mm)
footprint XTAL_5032 (Footprint not found)
footprint XTAL_2SM_5R0X3R2 (Footprint not found)
pins: 1 OSC1, 2 OSC2
2 alternate drawings of the same symbol